# EAGLE library part FT230X (library PP_DigitalIC)
Manufacturer Part #: FT230X Manufacturer: FTDI Description: USB Interface IC USB to Basic Serial UART IC
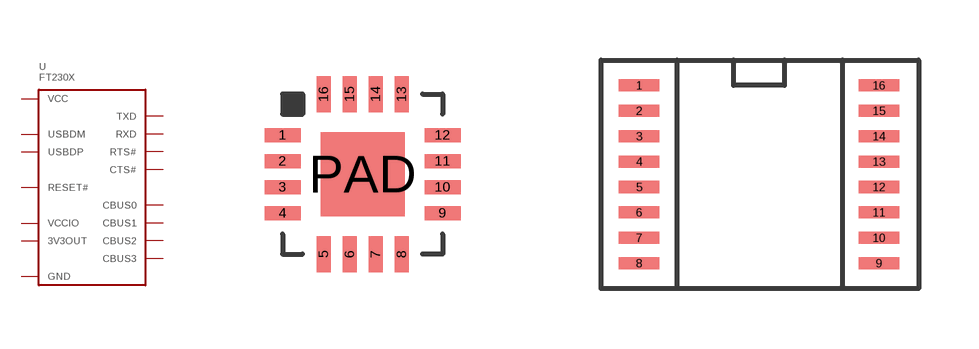
[diagram p1: symbol with the pads of FT230X_QFN-16; footprints FT230X_QFN-16, FT230X_SSOP-16]

Designator prefix U

## FT230XQ  [FT230X_QFN-16]
1  VCCIO
2  RXD
3  GND
4  CTS#
5  CBUS2
6  USBDP
7  USBDM
8  3V3OUT
9  RESET#
10  VCC
11  CBUS1
12  CBUS0
13  GND
14  CBUS3
15  TXD
16  RTS#
PAD  GND

## FT230XS  [FT230X_SSOP-16]
1  TXD
2  RTS#
3  VCCIO
4  RXD
5  GND
6  CTS#
7  CBUS2
8  USBDP
9  USBDM
10  3V3OUT
11  RESET#
12  VCC
13  GND
14  CBUS1
15  CBUS0
16  CBUS3

## Footprint FT230X_QFN-16 (pad centres in mm)
smd 0.9 x 0.35: 1 -2,0.975; 2 -2,0.325; 3 -2,-0.325; 4 -2,-0.975; 9 2,-0.975; 10 2,-0.325; 11 2,0.325; 12 2,0.975
smd 0.35 x 0.9: 5 -0.975,-2; 6 -0.325,-2; 7 0.325,-2; 8 0.975,-2; 13 0.975,2; 14 0.325,2; 15 -0.325,2; 16 -0.975,2
smd 2.1 x 2.1: PAD 0,0

## Footprint FT230X_SSOP-16 (pad centres in mm)
smd 1.016 x 0.305: 1 -2.997,2.223; 2 -2.997,1.587; 3 -2.997,0.953; 4 -2.997,0.318; 5 -2.997,-0.318; 6 -2.997,-0.953; 7 -2.997,-1.587; 8 -2.997,-2.223; 9 2.997,-2.223; 10 2.997,-1.587; 11 2.997,-0.953; 12 2.997,-0.318; 13 2.997,0.318; 14 2.997,0.953; 15 2.997,1.587; 16 2.997,2.223